# EAGLE library part MP1496DJ-LF-Z (library IC)
IC REG BUCK ADJ 2A TSOT23-8 Manufacturer's datasheet <https://www.monolithicpower.com/pub/media/document/MP1496_r1.05.pdf>
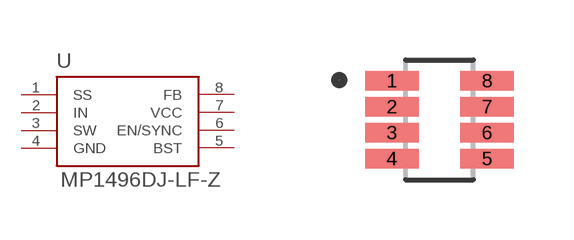
[diagram p10: symbol with the pads of TSOT-23-8; footprint TSOT-23-8]

Designator prefix U

## MP1496DJ-LF-Z (CREATED_BY: PCBLayout.com; DIGIKEY_PART_NUMBER: 1589-1850-2-ND; MANUFACTURER: Monolithic Power Systems Inc.; MPN: MP1496DJ-LF-Z; PACKAGE: TSOT-23-8)  [TSOT-23-8]
1  SS  in
2  IN  in
3  SW  out
4  GND  pwr
5  BST  pas
6  EN/SYNC  in
7  VCC  pwr
8  FB  out

## Footprint TSOT-23-8 (pad centres in mm)
smd 1.34 x 0.49: 1 -1.19,0.975; 2 -1.19,0.325; 3 -1.19,-0.325; 4 -1.19,-0.975; 5 1.19,-0.975; 6 1.19,-0.325; 7 1.19,0.325; 8 1.19,0.975